# EAGLE library part ATSAM* (library Microchip)
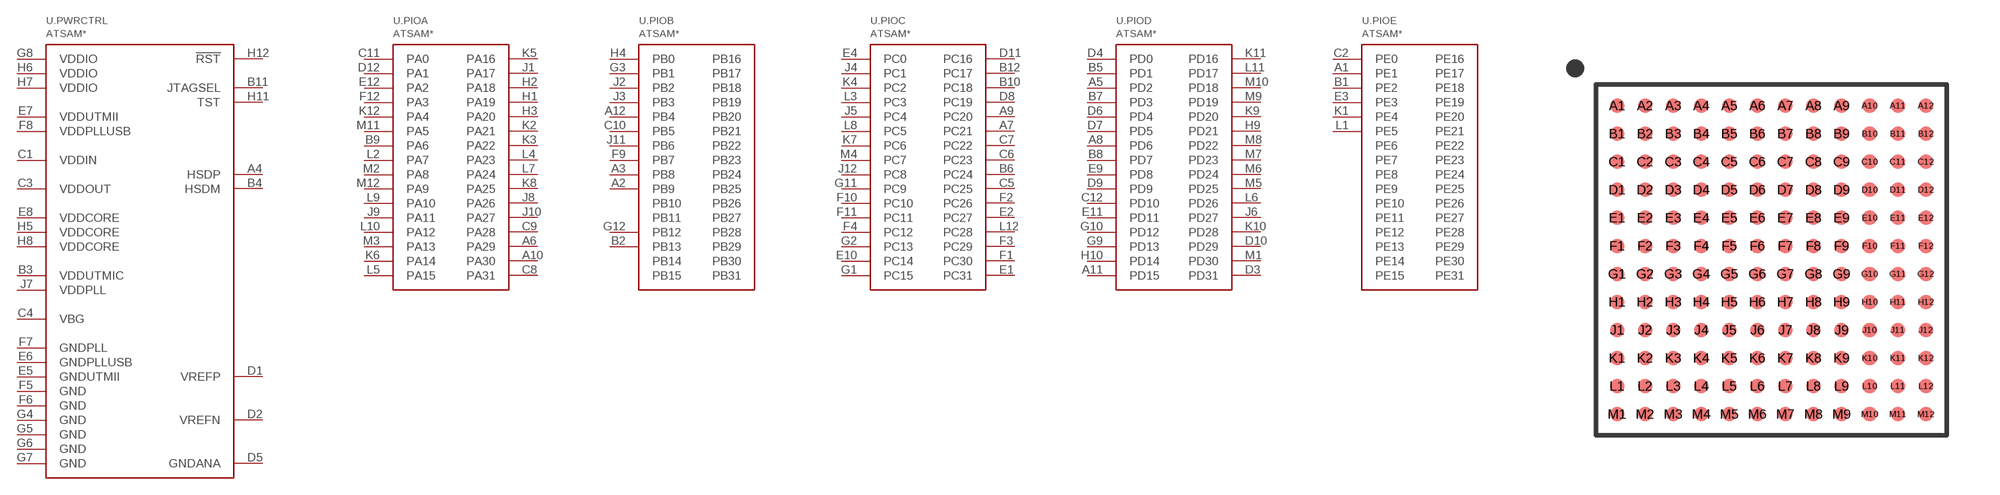
[diagram p42: symbol with the pads of LFBGA144; footprint LFBGA144]

Designator prefix U; gates .PWRCTRL=ATSAMX7XQXXX_PWRCTRL .PIOA=ATSAMX7XQXXX_PIOA .PIOB=ATSAMX7XQXXX_PIOB .PIOC=ATSAMX7XQXXX_PIOC .PIOD=ATSAMX7XQXXX_PIOD .PIOE=ATSAMX7XQXXX_PIOE

## ATSAME70Q19A-C, ATSAME70Q19B-C, ATSAME70Q20A-C, ATSAME70Q20B-C, ATSAME70Q21A-C, ATSAME70Q21B-C, ATSAMS70Q19A-C, ATSAMS70Q19B-C, ATSAMS70Q20A-C, ATSAMS70Q20B-C, ATSAMS70Q21A-C, ATSAMS70Q21B-C, ATSAMV70Q19A-C, ATSAMV70Q19B-C, ATSAMV70Q20A-C, ATSAMV70Q20B-C, ATSAMV70Q21A-C, ATSAMV70Q21B-C, ATSAMV71Q19A-C, ATSAMV71Q19B-C, ATSAMV71Q20A-C, ATSAMV71Q20B-C, ATSAMV71Q21A-C, ATSAMV71Q21B-C  [LFBGA144]
A1  .PIOE:PE1
A2  .PIOB:PB9
A3  .PIOB:PB8
A4  .PWRCTRL:HSDP
A5  .PIOD:PD2
A6  .PIOA:PA29
A7  .PIOC:PC21
A8  .PIOD:PD6
A9  .PIOC:PC20
A10  .PIOA:PA30
A11  .PIOD:PD15
A12  .PIOB:PB4
B1  .PIOE:PE2
B2  .PIOB:PB13
B3  .PWRCTRL:VDDUTMIC
B4  .PWRCTRL:HSDM
B5  .PIOD:PD1
B6  .PIOC:PC24
B7  .PIOD:PD3
B8  .PIOD:PD7
B9  .PIOA:PA6
B10  .PIOC:PC18
B11  .PWRCTRL:JTAGSEL
B12  .PIOC:PC17
C1  .PWRCTRL:VDDIN
C2  .PIOE:PE0
C3  .PWRCTRL:VDDOUT
C4  .PWRCTRL:VBG
C5  .PIOC:PC25
C6  .PIOC:PC23
C7  .PIOC:PC22
C8  .PIOA:PA31
C9  .PIOA:PA28
C10  .PIOB:PB5
C11  .PIOA:PA0
C12  .PIOD:PD10
D1  .PWRCTRL:VREFP
D2  .PWRCTRL:VREFN
D3  .PIOD:PD31
D4  .PIOD:PD0
D5  .PWRCTRL:GNDANA
D6  .PIOD:PD4
D7  .PIOD:PD5
D8  .PIOC:PC19
D9  .PIOD:PD9
D10  .PIOD:PD29
D11  .PIOC:PC16
D12  .PIOA:PA1
E1  .PIOC:PC31
E2  .PIOC:PC27
E3  .PIOE:PE3
E4  .PIOC:PC0
E5  .PWRCTRL:GNDUTMII
E6  .PWRCTRL:GNDPLLUSB
E7  .PWRCTRL:VDDUTMII
E8  .PWRCTRL:VDDCORE
E9  .PIOD:PD8
E10  .PIOC:PC14
E11  .PIOD:PD11
E12  .PIOA:PA2
F1  .PIOC:PC30
F2  .PIOC:PC26
F3  .PIOC:PC29
F4  .PIOC:PC12
F5  .PWRCTRL:GND
F6  .PWRCTRL:GND
F7  .PWRCTRL:GNDPLL
F8  .PWRCTRL:VDDPLLUSB
F9  .PIOB:PB7
F10  .PIOC:PC10
F11  .PIOC:PC11
F12  .PIOA:PA3
G1  .PIOC:PC15
G2  .PIOC:PC13
G3  .PIOB:PB1
G4  .PWRCTRL:GND
G5  .PWRCTRL:GND
G6  .PWRCTRL:GND
G7  .PWRCTRL:GND
G8  .PWRCTRL:VDDIO
G9  .PIOD:PD13
G10  .PIOD:PD12
G11  .PIOC:PC9
G12  .PIOB:PB12
H1  .PIOA:PA19
H2  .PIOA:PA18
H3  .PIOA:PA20
H4  .PIOB:PB0
H5  .PWRCTRL:VDDCORE
H6  .PWRCTRL:VDDIO
H7  .PWRCTRL:VDDIO
H8  .PWRCTRL:VDDCORE
H9  .PIOD:PD21
H10  .PIOD:PD14
H11  .PWRCTRL:TST
H12  .PWRCTRL:!RST
J1  .PIOA:PA17
J2  .PIOB:PB2
J3  .PIOB:PB3
J4  .PIOC:PC1
J5  .PIOC:PC4
J6  .PIOD:PD27
J7  .PWRCTRL:VDDPLL
J8  .PIOA:PA26
J9  .PIOA:PA11
J10  .PIOA:PA27
J11  .PIOB:PB6
J12  .PIOC:PC8
K1  .PIOE:PE4
K2  .PIOA:PA21
K3  .PIOA:PA22
K4  .PIOC:PC2
K5  .PIOA:PA16
K6  .PIOA:PA14
K7  .PIOC:PC6
K8  .PIOA:PA25
K9  .PIOD:PD20
K10  .PIOD:PD28
K11  .PIOD:PD16
K12  .PIOA:PA4
L1  .PIOE:PE5
L2  .PIOA:PA7
L3  .PIOC:PC3
L4  .PIOA:PA23
L5  .PIOA:PA15
L6  .PIOD:PD26
L7  .PIOA:PA24
L8  .PIOC:PC5
L9  .PIOA:PA10
L10  .PIOA:PA12
L11  .PIOD:PD17
L12  .PIOC:PC28
M1  .PIOD:PD30
M2  .PIOA:PA8
M3  .PIOA:PA13
M4  .PIOC:PC7
M5  .PIOD:PD25
M6  .PIOD:PD24
M7  .PIOD:PD23
M8  .PIOD:PD22
M9  .PIOD:PD19
M10  .PIOD:PD18
M11  .PIOA:PA5
M12  .PIOA:PA9

## Footprint LFBGA144 (pad centres in mm)
smd 0.406 x 0.406: A1 -4.4,4.4; A2 -3.6,4.4; A3 -2.8,4.4; A4 -2,4.4; A5 -1.2,4.4; A6 -0.4,4.4; A7 0.4,4.4; A8 1.2,4.4; A9 2,4.4; A10 2.8,4.4; A11 3.6,4.4; A12 4.4,4.4; B1 -4.4,3.6; B2 -3.6,3.6; B3 -2.8,3.6; B4 -2,3.6; B5 -1.2,3.6; B6 -0.4,3.6; B7 0.4,3.6; B8 1.2,3.6; B9 2,3.6; B10 2.8,3.6; B11 3.6,3.6; B12 4.4,3.6; C1 -4.4,2.8; C2 -3.6,2.8; C3 -2.8,2.8; C4 -2,2.8; C5 -1.2,2.8; C6 -0.4,2.8; C7 0.4,2.8; C8 1.2,2.8; C9 2,2.8; C10 2.8,2.8; C11 3.6,2.8; C12 4.4,2.8; D1 -4.4,2; D2 -3.6,2; D3 -2.8,2; D4 -2,2; D5 -1.2,2; D6 -0.4,2; D7 0.4,2; D8 1.2,2; D9 2,2; D10 2.8,2; D11 3.6,2; D12 4.4,2; E1 -4.4,1.2; E2 -3.6,1.2; E3 -2.8,1.2; E4 -2,1.2; E5 -1.2,1.2; E6 -0.4,1.2; E7 0.4,1.2; E8 1.2,1.2; E9 2,1.2; E10 2.8,1.2; E11 3.6,1.2; E12 4.4,1.2; F1 -4.4,0.4; F2 -3.6,0.4; F3 -2.8,0.4; F4 -2,0.4; F5 -1.2,0.4; F6 -0.4,0.4; F7 0.4,0.4; F8 1.2,0.4; F9 2,0.4; F10 2.8,0.4; F11 3.6,0.4; F12 4.4,0.4; G1 -4.4,-0.4; G2 -3.6,-0.4; G3 -2.8,-0.4; G4 -2,-0.4; G5 -1.2,-0.4; G6 -0.4,-0.4; G7 0.4,-0.4; G8 1.2,-0.4; G9 2,-0.4; G10 2.8,-0.4; G11 3.6,-0.4; G12 4.4,-0.4; H1 -4.4,-1.2; H2 -3.6,-1.2; H3 -2.8,-1.2; H4 -2,-1.2; H5 -1.2,-1.2; H6 -0.4,-1.2; H7 0.4,-1.2; H8 1.2,-1.2; H9 2,-1.2; H10 2.8,-1.2; H11 3.6,-1.2; H12 4.4,-1.2; J1 -4.4,-2; J2 -3.6,-2; J3 -2.8,-2; J4 -2,-2; J5 -1.2,-2; J6 -0.4,-2; J7 0.4,-2; J8 1.2,-2; J9 2,-2; J10 2.8,-2; J11 3.6,-2; J12 4.4,-2; K1 -4.4,-2.8; K2 -3.6,-2.8; K3 -2.8,-2.8; K4 -2,-2.8; K5 -1.2,-2.8; K6 -0.4,-2.8; K7 0.4,-2.8; K8 1.2,-2.8; K9 2,-2.8; K10 2.8,-2.8; K11 3.6,-2.8; K12 4.4,-2.8; L1 -4.4,-3.6; L2 -3.6,-3.6; L3 -2.8,-3.6; L4 -2,-3.6; L5 -1.2,-3.6; L6 -0.4,-3.6; L7 0.4,-3.6; L8 1.2,-3.6; L9 2,-3.6; L10 2.8,-3.6; L11 3.6,-3.6; L12 4.4,-3.6; M1 -4.4,-4.4; M2 -3.6,-4.4; M3 -2.8,-4.4; M4 -2,-4.4; M5 -1.2,-4.4; M6 -0.4,-4.4; M7 0.4,-4.4; M8 1.2,-4.4; M9 2,-4.4; M10 2.8,-4.4; M11 3.6,-4.4; M12 4.4,-4.4